# Altium schematic symbol library lib_amphenol.SchLib: 1 symbol
Pins are listed as number, name and electrical type; pins without a type are passive.

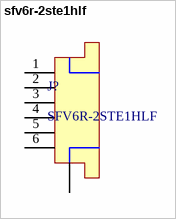
[diagram p0: symbol sfv6r-2ste1hlf]

## sfv6r-2ste1hlf
designator J?, comment SFV6R-2STE1HLF
6 Position FFC, FPC Connector Contacts, Top 0.020" (0.50mm) Surface Mount, Right Angle; ComponentLink1Description: Datasheet; ComponentLink1URL: https://cdn.amphenol-icc.com/media/wysiwyg/files/drawing/10112793.pdf; #digikey: *; #mouser: *
footprint SFV6R-2STE1HLF (CONN FFC FPC TOP 6POS 0.50MM R/A)
pins: 1, 2, 3, 4, 5, 6, ANCHOR 7